# EAGLE library part MCV_05/6-G-2,5 (library con-phoenix-250)
Mini-Combicon 2.50mm 6polig MC(V) 0,5/6-G-2,5
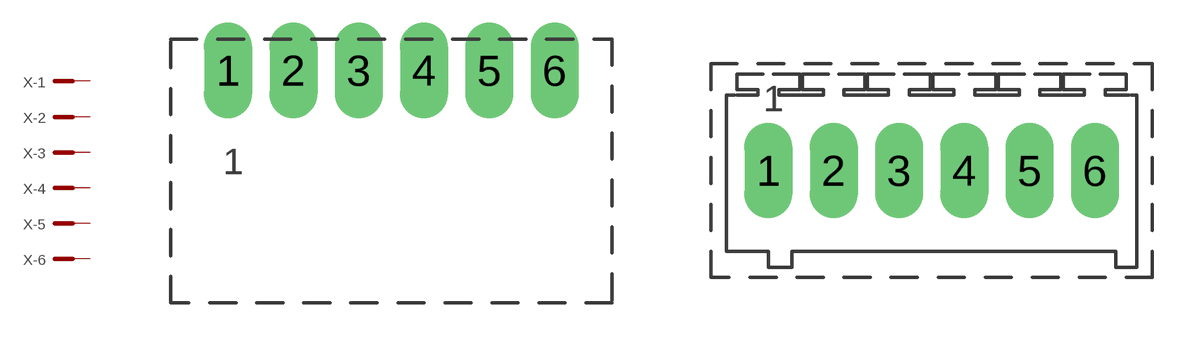
[diagram p2: symbol with the pads of MC6; footprints MC6, MCV6]

Designator prefix X; gates -1=MCST -2=MCST -3=MCST -4=MCST -5=MCST -6=MCST

## MCV_05/6-G-2,5  [MC6]
1  -1:SK  pas
2  -2:SK  pas
3  -3:SK  pas
4  -4:SK  pas
5  -5:SK  pas
6  -6:SK  pas

## MCV_05/6-G-2,5V  [MCV6]
Pads as for MC6

## Footprint MC6 (pad centres in mm)
Mini-Combicon 2.50mm 6-polig
drill 1.22 pad 1.676 long: 1 -5,0; 2 -2.5,0; 3 0,0; 4 2.5,0; 5 5,0; 6 7.5,0

## Footprint MCV6 (pad centres in mm)
Mini-Combicon 2.50mm vertikal 6-polig
drill 1.22 pad 1.676 long: 1 -5,0; 2 -2.5,0; 3 0,0; 4 2.5,0; 5 5,0; 6 7.5,0